# Altium footprint library mylib.PcbLib: 214 footprints (part 11 of 14)
Each footprint in its own frame and in the unit in brackets; x right, y up, seen from the top. Pads: shape width x height; smd on the part's side, far side on the other; paste and mask are expansions set on the pad; w line width, h text height; cw(c..) or ccw(c..) is an arc to the next point about the centre after c.
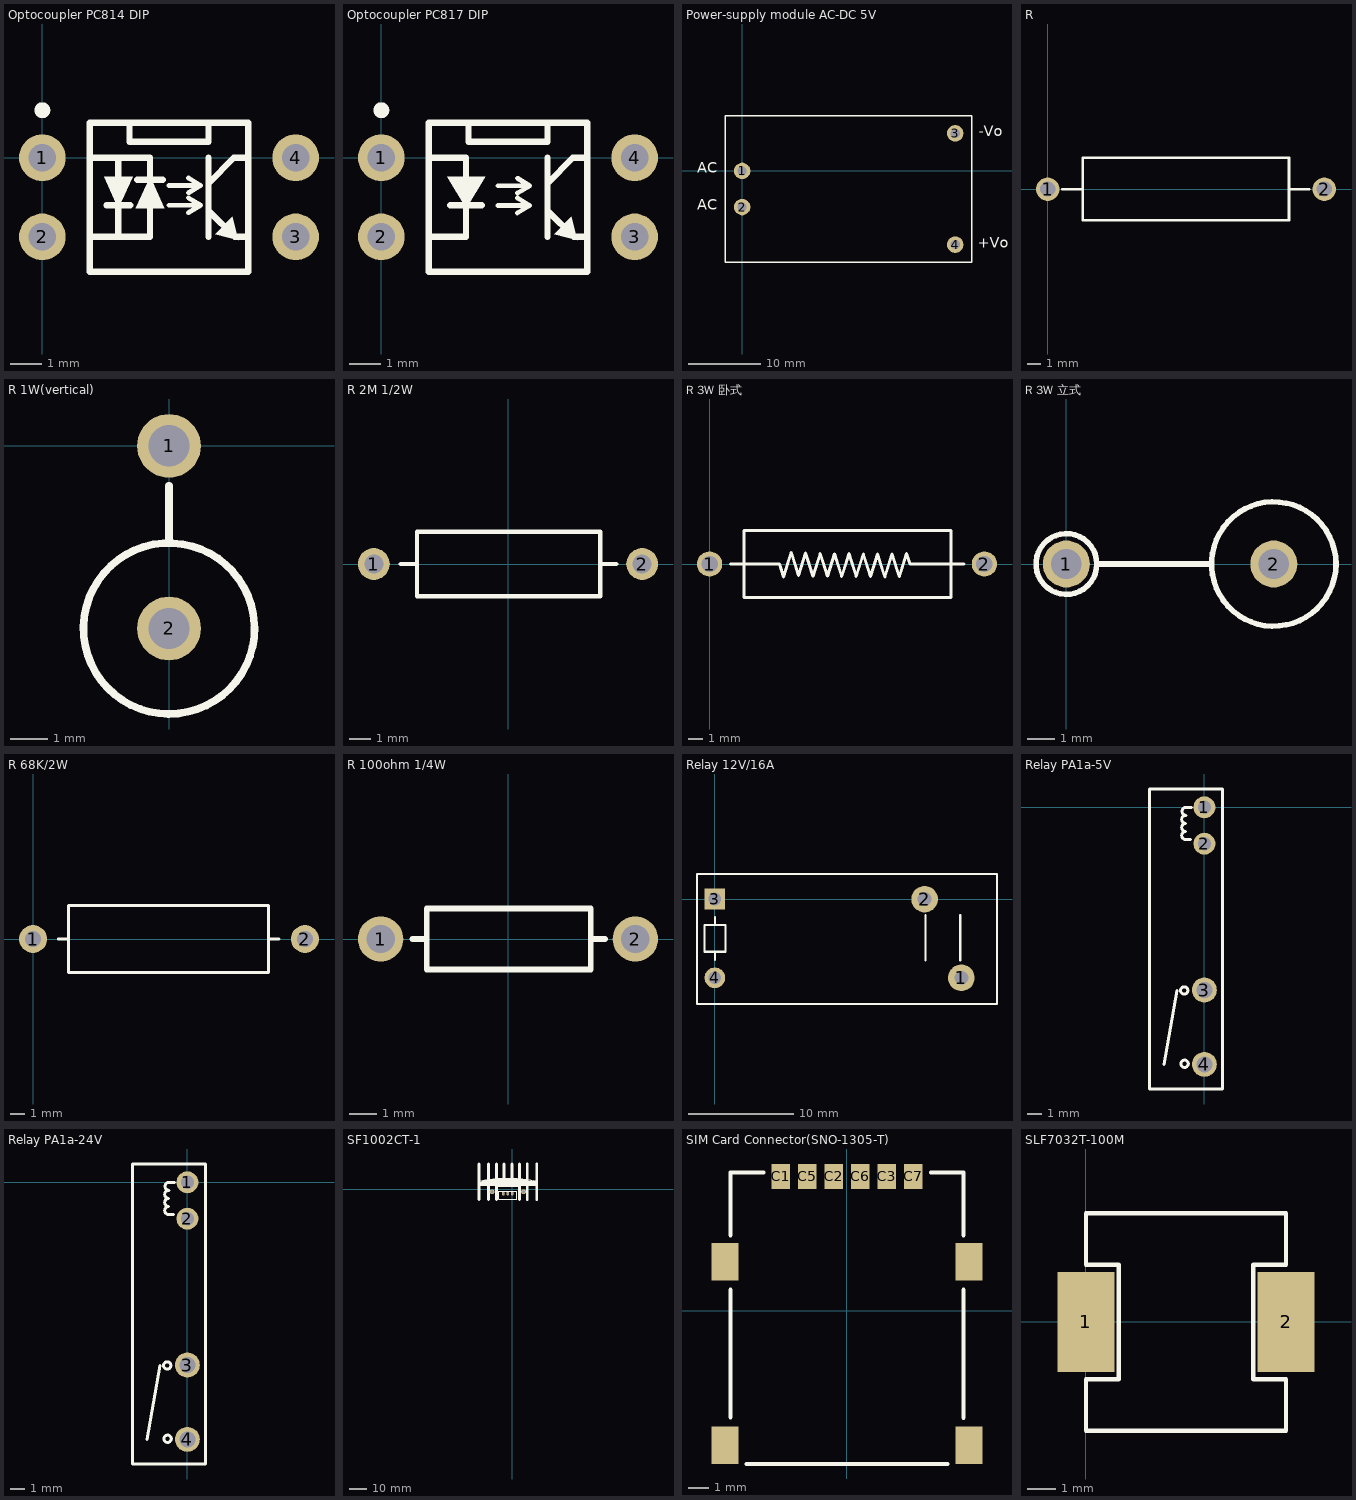
[diagram p10: the footprints below, top view; thin cyan lines are the x and y axes]

## Optocoupler PC814 DIP [mil]
pads (4):
  round 59 hole 35: 1(0,0) 2(0,-100) 3(320,-100) 4(320,0)
Top Overlay:
  circle w10: c0,60 r5
  region: 218.2,-96.8 240.2,-74.8 247.53,-104.13
  region: 154,-64 136,-24 118,-64
  region: 78,-24 96,-64 114,-24
  lines w6: 160,-60 200,-60 ; 160,-35 200,-35 ; 184.31,-69.51 200,-60 ; 184.6,-50.66 200,-60 ; 184.6,-25.66 200,-35 ; 184.75,-44.24 200,-35
  lines w8: 60,-100 136,-100 136,0 60,0 ; 81,-60 111,-60 ; 96,-100 96,0 ; 110,44 110,20 210,20 210,44 ; 120,-28 152,-28 ; 210,-100 210,0 ; 210,-32 242,0 260,0 ; 210.5,-67.5 243,-100 260,-100 ; 60,-144 260,-144 260,44 60,44 60,-144

## Optocoupler PC817 DIP [mil]
pads (4):
  round 59 hole 35: 1(0,0) 2(0,-100) 3(320,-100) 4(320,0)
Top Overlay:
  circle w10: c0,60 r5
  region: 218.2,-96.8 240.2,-74.8 247.53,-104.13
  region: 83,-24 107,-64 131,-24
  lines w6: 147.4,-60.34 187.4,-60.34 ; 147.4,-35.34 187.4,-35.34 ; 171.71,-69.85 187.4,-60.34 ; 172,-51 187.4,-60.34 ; 172,-26 187.4,-35.34 ; 172.16,-44.58 187.4,-35.34
  lines w8: 60,-100 107,-100 107,0 60,0 ; 87,-60 127,-60 ; 110,44 110,20 210,20 210,44 ; 210,-100 210,0 ; 210,-32 242,0 260,0 ; 210.5,-67.5 243,-100 260,-100 ; 60,-144 260,-144 260,44 60,44 60,-144

## Power-supply module AC-DC 5V [mil]
pads (4):
  round 90 hole 50: 1(0,0) 2(0,-196) 3(1158,204) 4(1158,-400)
Top Overlay:
  lines w8: -91,-496 1249,-496 1249,300 -91,300 -91,-496
  text "-Vo" at 1285,170 h100
  text "+Vo" at 1280,-435 h100
  text "AC" at -245,-230 h100
  text "AC" at -245,-30 h100

## R [mm]
pads (2):
  round 1.7 hole 1.1: 1(0,0) 2(20.1,0)
Top Overlay:
  lines w0.203: 1.08,0 2.54,0 ; 17.551,0 18.991,0 ; 2.54,-2.261 2.54,2.286 17.526,2.286 17.526,-2.261 2.54,-2.261

## R 1W(vertical) [mm]
pads (2):
  round 1.7 hole 1.1: 1(0,0) 2(0,-4.87)
Top Overlay:
  lines w0.203: 0,-2.591 0,-1.067 ; 2.277,-4.757 ccw(c0,-4.87) 2.28,-4.839

## R 2M 1/2W [mil]
pads (2):
  round 59 hole 35: 1(-249,0) 2(249,0)
Top Overlay:
  lines w8: -199,0 -169,0 ; 171,0 201,0 ; -169,-60 171,-60 171,60 -169,60 -169,-60

## R 3W 卧式 [mil]
pads (2):
  round 68 hole 44: 1(0,0) 2(740,0)
Top Overlay:
  lines w8: 56,0 187.78,0 198.75,-34.54 219.67,31.34 239.45,-30.93 258.68,29.61 278.56,-33 297.85,27.73 317.1,-32.87 336.26,27.46 355.76,-33.94 375.39,27.87 394.8,-33.22 413.82,26.65 ; 413.85,26.73 433.1,-33.87 452.26,26.46 471.76,-34.94 491.39,26.87 510.8,-34.22 530.5,27.79 ; 530.39,27.87 539.3,-0.17 ; 540,0 685,0 ; 92,-90 92,90 650,90 650,-90 92,-90

## R 3W 立式 [mil]
pads (2):
  round 68 hole 44: 1(0,0) 2(300,0)
Top Overlay:
  circle w8: c0,0 r44
  circle w8: c300,0 r90
  lines w8: 44,0 210,0

## R 68K/2W [mil]
pads (2):
  round 76 hole 44: 1(0,0) 2(734,0)
Top Overlay:
  lines w8: 68,0 96,0 ; 636,0 664,0 ; 96,-90 96,90 636,90 636,-90 96,-90

## R 100ohm 1/4W [mil]
pads (2):
  round 64 hole 40: 1(-180,0) 2(180,0)
Top Overlay:
  lines w8: -135,0 -115,0 ; 119,0 137,0 ; -115,-43 -115,12 -115,43 117,43 117,-43 -115,-43

## Relay 12V/16A [mil]
pads (4):
  round 100 hole 52: 1(925.2,-295.28) 2(787.4,0)
  rect 78x78 hole 48: 3(0,0)
  round 78 hole 48: 4(0,-295.28)
Top Overlay:
  lines w7.87: 0.72,-227.37 0.72,-197.37 ; 0.72,-97.37 0.72,-67.37 ; 790,-230 790,-60 ; 920.95,-230 920.95,-60 ; -66.93,-393.7 -66.93,94.49 1059.06,94.49 1059.06,-393.7 -66.93,-393.7 ; -39.28,-197.37 -39.28,-97.37 40.72,-97.37 40.72,-197.37 -39.28,-197.37

## Relay PA1a-5V [mil]
pads (4):
  round 60 hole 36: 1(0,0) 2(0,-99.21)
  round 68 hole 44: 3(0,-498.82) 4(0,-701.57)
Top Overlay:
  circle w8: c-55,-500 r10.05
  circle w8: c-54,-700 r10.05
  lines w8: -110,-702 -75,-500 ; -51,-22 ccw(c-51,-33) -62,-33 ccw(c-51,-33) -51,-44 ccw(c-51,-55) -62,-55 ccw(c-51,-55) -51,-66 ccw(c-51,-77) -62,-77 ccw(c-51,-77) -51,-88 -38,-88 ; -50,-22 cw(c-50,-11) -61,-11 cw(c-50,-11) -50,0 -35,0 ; -150.39,-768.9 50,-768.9 50,50 -150.39,50 -150.39,-768.9
3D body: height 497, standoff 0, extent -154.39,-772.9 54,54

## Relay PA1a-24V [mil]
pads (4):
  round 60 hole 36: 1(0,0) 2(0,-99.21)
  round 68 hole 44: 3(0,-498.82) 4(0,-701.57)
Top Overlay:
  circle w8: c-54,-700 r10.05
  circle w8: c-55,-500 r10.05
  lines w8: -110,-702 -75,-500 ; -51,-22 ccw(c-51,-33) -62,-33 ccw(c-51,-33) -51,-44 ccw(c-51,-55) -62,-55 ccw(c-51,-55) -51,-66 ccw(c-51,-77) -62,-77 ccw(c-51,-77) -51,-88 -38,-88 ; -50,-22 cw(c-50,-11) -61,-11 cw(c-50,-11) -50,0 -35,0 ; -150.39,-768.9 -150.39,50 50,50 50,-768.9 -150.39,-768.9
3D body: height 497, standoff 0, extent -154.39,-772.9 54,54

## SF1002CT-1 [mil]
pads (5):
  round 109 hole 69: 0(251,-58) 2(-451,-58)
  oval 60x84 hole 44: 1(0,-100) 2(-100,-100) 3(-200,-100)
Top Overlay:
  rectangle: -736,72 543,170
  region: -732,169 -679,181 -648,189 -558,203 -429,220 -257,232 -102,237 135,229 291,214 429,192 531,173 516,156 -732,161
  lines w8: -731.63,171.99 cw(c-96,-2952) 527.86,174.37 ; -357,70 143,70 ; -300,-225 -300,-50 100,-50 100,-225 -300,-225
  lines w60: -743,-229 -743,562 ; -533,-229 -533,562 ; 333,-229 333,562 ; 543,-229 543,562
  lines w65: -357,-229 -357,562 ; -181,136 -181,562 ; -5,155 -5,562 ; 157,-229 157,562
3D body: height 973, standoff 0, extent -773,-261.5 573,594.5

## SIM Card Connector(SNO-1305-T) [mm]
pads (10):
  rect 0.9x1.2 smd: C1(-3.175,6.45) C2(-0.635,6.45) C3(1.905,6.45) C5(-1.905,6.45) C6(0.635,6.45) C7(3.175,6.45)
  rect 1.3x1.8 smd: ""(-5.85,-6.45) ""(-5.85,2.35) ""(5.85,-6.45) ""(5.85,2.35)
Top Overlay:
  lines w0.2: -5.6,-5.105 -5.6,1.016 ; -5.6,3.632 -5.6,6.65 -4.013,6.65 ; -4.826,-7.35 4.826,-7.35 ; 4.039,6.65 5.6,6.65 5.6,3.632 ; 5.6,-5.131 5.6,1.016

## SLF7032T-100M [mm]
pads (2):
  rect 2x3.499 smd: 1(0,0) 2(6.999,0)
Top Overlay:
  lines w0.152: 0,-3.81 0,-2 1.15,-2 1.15,2 0,2 0,3.81 7,3.81 7,2 5.85,2 5.85,-2 7,-2 7,-3.81 0,-3.81